# Altium footprint library D 电源模块.PcbLib: 107 footprints (part 1 of 7)
Each footprint in its own frame and in the unit in brackets; x right, y up, seen from the top. Pads: shape width x height; smd on the part's side, far side on the other; paste and mask are expansions set on the pad; w line width, h text height; cw(c..) or ccw(c..) is an arc to the next point about the centre after c.
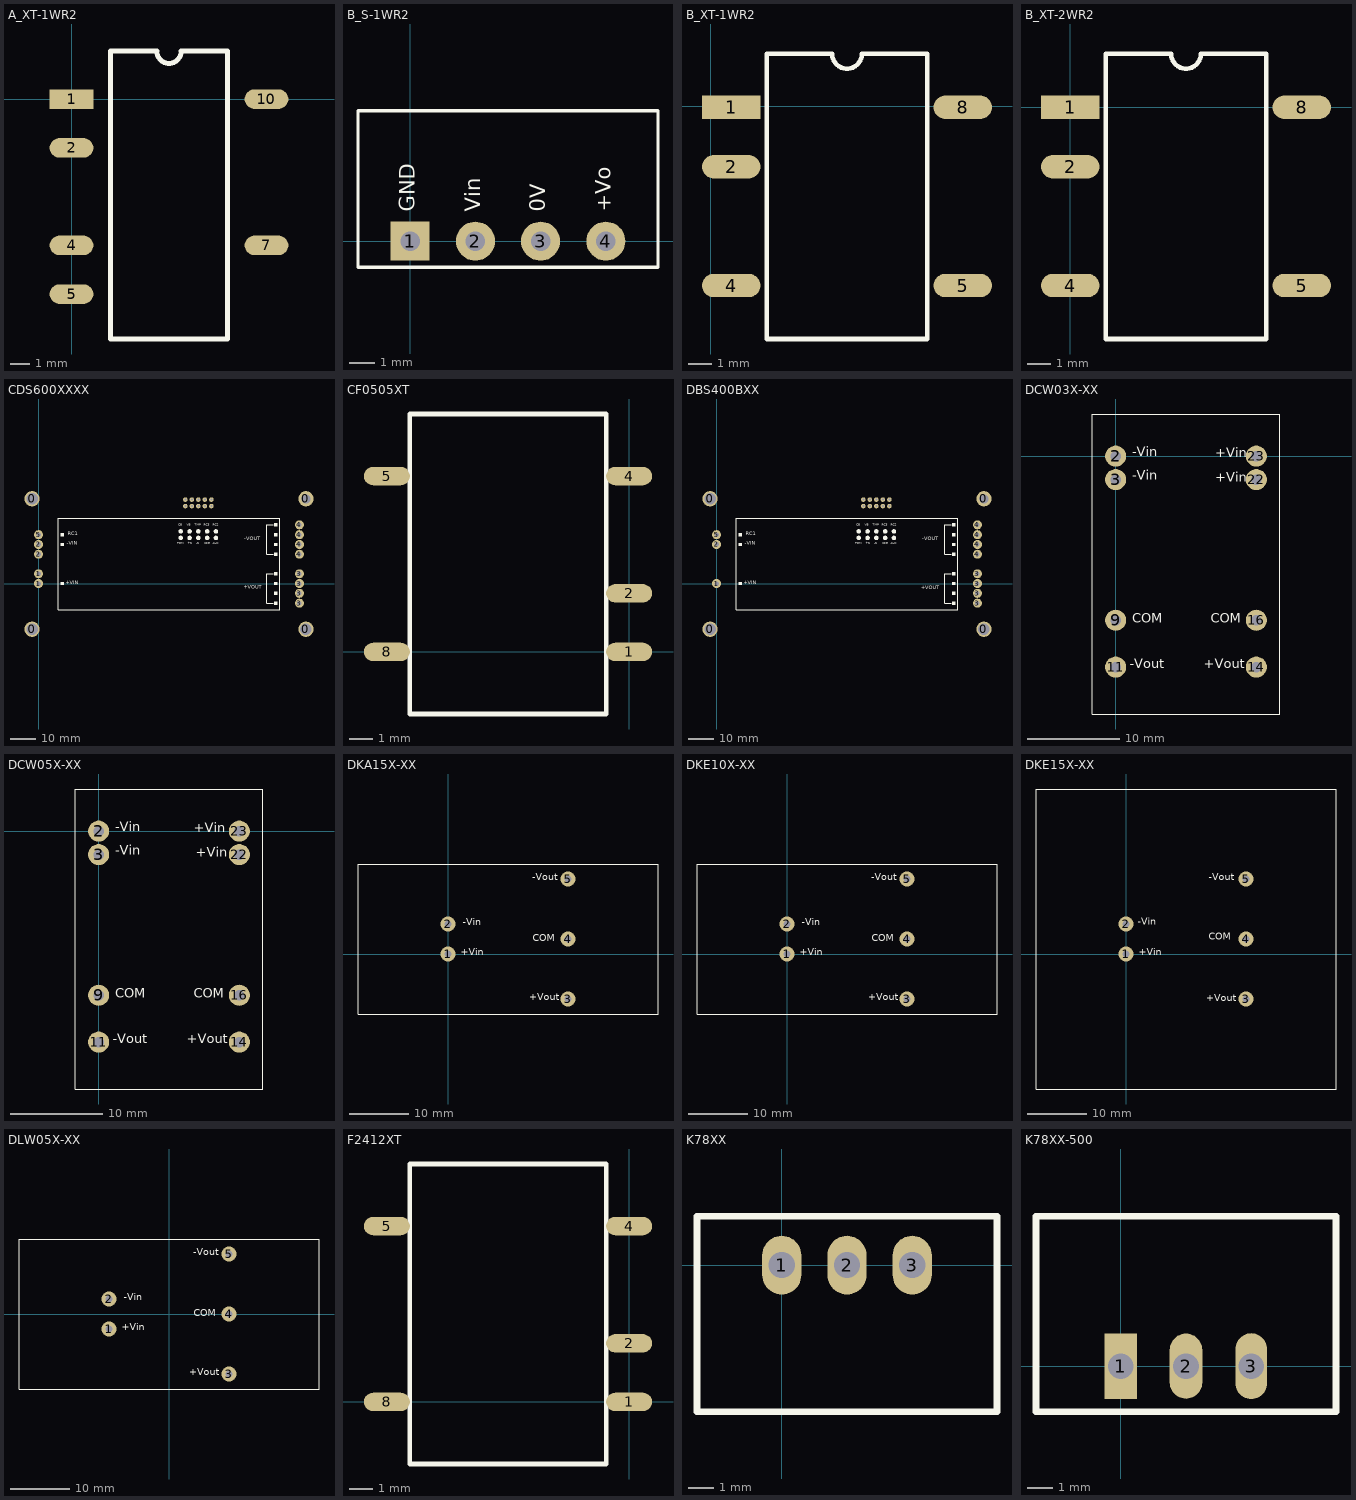
[diagram p0: the footprints below, top view; thin cyan lines are the x and y axes]

## A_XT-1WR2 [mil]
pads (6):
  rect 90x40 smd: 1(0,0)
  oval 90x40 smd: 2(0,-100) 4(0,-300) 5(0,-400) 7(400,-300) 10(400,0)
Top Overlay:
  lines w10: 80,-492.13 80,98.43 175,98.43 ccw(c200,98.43) 225,98.43 320,98.43 320,-492.13 80,-492.13

## B_S-1WR2 [mil] "金升阳DC-DC定电压输入/隔离非稳压/单路输出电源"
height 397.64
pads (4):
  rect 60x60 hole 30: 1(0,0)
  round 60 hole 30: 2(100,0) 3(200,0) 4(300,0)
Top Overlay:
  lines w5: -80,-40 380,-40 380,200 -80,200 -80,-40
  text "+Vo" at 315,45 h40
  text "0V" at 215,45 h40
  text "Vin" at 115,45 h40
  text "GND" at 15,45 h40
Bottom Overlay:
  text "+Vo" at 315,110 h40
  text "0V" at 215,85 h40
  text "Vin" at 115,95 h40
  text "GND" at 15,120 h40

## B_XT-1WR2 [mm]
pads (5):
  rect 2.5x1 smd: 1(0.875,-0.042)
  oval 2.5x1 smd: 2(0.875,-2.582) 4(0.875,-7.662) 5(10.781,-7.662) 8(10.781,-0.042)
Top Overlay:
  lines w0.2: 2.399,-9.948 2.399,2.244 5.193,2.244 ccw(c5.828,2.244) 6.463,2.244 9.257,2.244 9.257,-9.948 2.399,-9.948

## B_XT-2WR2 [mm]
pads (5):
  rect 2.5x1 smd: 1(0,0)
  oval 2.5x1 smd: 2(0,-2.54) 4(0,-7.62) 5(9.906,-7.62) 8(9.906,0)
Top Overlay:
  lines w0.2: 1.524,-9.906 8.382,-9.906 8.382,2.286 5.588,2.286 cw(c4.953,2.286) 4.318,2.286 1.524,2.286 1.524,-9.906

## CDS600XXXX [mil] "COSEL 600W DC-DC电源"
height 500
pads (37):
  round 236.22 hole 177.17: 0(-100,-700) 0(-100,1300) 0(4100,-700)
  round 70 on Top Overlay: 0(2180,700) 0(2180,800) 0(2315,700) 0(2315,800) 0(2450,700) 0(2450,800) 0(2585,700) 0(2585,800) 0(2720,700) 0(2720,800)
  round 236.22 hole 137.8: 0(4100,1300)
  round 137.79 hole 70.87: 1(0,0) 1(0,150) 2(0,450) 2(0,600) 3(4000,-300) 3(4000,-150) 3(4000,0) 4(4000,600) 4(4000,750) 4(4000,900) 5(0,750)
  round 137.8 hole 70.87: 3(4000,150) 4(4000,450)
  round 70 hole 31: 6(2250,1288) 7(2350,1288) 8(2450,1288) 9(2550,1288) 10(2650,1288) 11(2250,1188) 12(2350,1188) 13(2450,1188) 14(2550,1188) 15(2650,1188)
Top Overlay:
  rectangle: 340,725 390,775
  rectangle: 340,575 390,625
  rectangle: 340,-25 390,25
  region: 3660,775 3610,775 3610,725 3660,725
  region: 3660,625 3610,625 3610,575 3660,575
  region: 3660,25 3610,25 3610,-25 3660,-25
  region: 3660,175 3610,175 3610,125 3660,125
  region: 3660,-125 3610,-125 3610,-175 3660,-175
  region: 3660,-275 3610,-275 3610,-325 3660,-325
  region: 3660,475 3610,475 3610,425 3660,425
  region: 3660,925 3610,925 3610,875 3660,875
  lines w5: 3595,-300 3500,-300 3500,150 3595,150 ; 3595,450 3500,450 3500,900 3595,900
  lines w10: 300,-400 3700,-400 3700,1000 300,1000 300,-400
  text "+VIN" at 415,-30 h100
  text "-VIN" at 430,570 h100
  text "RC1" at 445,720 h100
  text "+VOUT" at 3145,-105 h100
  text "-VOUT" at 3155,645 h100
  text "CB" at 2145,875 h60
  text "VB" at 2275,875 h60
  text "TMP" at 2395,875 h60
  text "RC3" at 2535,875 h60
  text "RC2" at 2670,875 h60
  text "TRM" at 2125,585 h60
  text "+S" at 2285,585 h60
  text "-S" at 2420,585 h60
  text "IOG" at 2540,585 h60
  text "AUX" at 2670,585 h60
Bottom Overlay:
  lines w10: -300,-900 4300,-900 4300,1500 -300,1500 -300,-900

## CF0505XT [mm]
pads (5):
  oval 2x0.8 smd: 1(0,0) 2(0,2.54) 4(0,7.62) 5(-10.5,7.62) 8(-10.5,0)
Top Overlay:
  lines w0.2: -9.5,-2.69 -9.5,10.31 -1,10.31 -1,-2.69 -9.5,-2.69

## DBS400BXX [mil] "COSEL 400W DC-DC电源"
height 500
pads (35):
  round 236.22 hole 177.17: 0(-100,-700) 0(-100,1300) 0(4100,-700)
  round 70 on Top Overlay: 0(2180,700) 0(2180,800) 0(2315,700) 0(2315,800) 0(2450,700) 0(2450,800) 0(2585,700) 0(2585,800) 0(2720,700) 0(2720,800)
  round 236.22 hole 137.8: 0(4100,1300)
  round 137.79 hole 70.87: 1(0,0) 2(0,600) 3(4000,-300) 3(4000,-150) 3(4000,0) 4(4000,600) 4(4000,750) 4(4000,900) 5(0,750)
  round 137.8 hole 70.87: 3(4000,150) 4(4000,450)
  round 70 hole 31: 6(2250,1288) 7(2350,1288) 8(2450,1288) 9(2550,1288) 10(2650,1288) 11(2250,1188) 12(2350,1188) 13(2450,1188) 14(2550,1188) 15(2650,1188)
Top Overlay:
  region: 3660,925 3610,925 3610,875 3660,875
  region: 3660,475 3610,475 3610,425 3660,425
  region: 3660,-275 3610,-275 3610,-325 3660,-325
  region: 3660,-125 3610,-125 3610,-175 3660,-175
  region: 3660,175 3610,175 3610,125 3660,125
  region: 3660,25 3610,25 3610,-25 3660,-25
  region: 3660,625 3610,625 3610,575 3660,575
  region: 3660,775 3610,775 3610,725 3660,725
  rectangle: 340,-25 390,25
  rectangle: 340,575 390,625
  rectangle: 340,725 390,775
  lines w5: 3595,-300 3500,-300 3500,150 3595,150 ; 3595,450 3500,450 3500,900 3595,900
  lines w10: 300,-400 300,1000 3700,1000 3700,-400 300,-400
  text "AUX" at 2670,585 h60
  text "IOG" at 2540,585 h60
  text "-S" at 2420,585 h60
  text "+S" at 2285,585 h60
  text "TRM" at 2125,585 h60
  text "RC2" at 2670,875 h60
  text "RC3" at 2535,875 h60
  text "TMP" at 2395,875 h60
  text "VB" at 2275,875 h60
  text "CB" at 2145,875 h60
  text "-VOUT" at 3155,645 h100
  text "+VOUT" at 3135,-110 h100
  text "RC1" at 445,720 h100
  text "-VIN" at 430,570 h100
  text "+VIN" at 415,-30 h100
Bottom Overlay:
  lines w10: -300,-900 -300,1500 4300,1500 4300,-900 -300,-900

## DCW03X-XX [mil] "明纬DC-DC 3W 2：1宽输入/隔离稳压/双组输出电源"
height 480.31
pads (8):
  round 90 hole 45: 2(0,0) 3(0,-100) 9(0,-700) 11(0,-900) 14(600,-900) 16(600,-700) 22(600,-100) 23(600,0)
Top Overlay:
  lines w5: -100,-1100 -100,180 700,180 700,-1100 -100,-1100
  text "-Vout" at 60,-920 h70
  text "+Vout" at 375,-920 h70
  text "COM" at 405,-725 h70
  text "COM" at 70,-725 h70
  text "+Vin" at 425,-125 h70
  text "+Vin" at 425,-20 h70
  text "-Vin" at 70,-15 h70
  text "-Vin" at 70,-115 h70
Bottom Overlay:
  text "-Vout" at 205,-920 h70
  text "+Vout" at 540,-920 h70
  text "COM" at 545,-725 h70
  text "COM" at 210,-725 h70
  text "+Vin" at 545,-125 h70
  text "+Vin" at 545,-25 h70
  text "-Vin" at 175,-15 h70
  text "-Vin" at 170,-115 h70

## DCW05X-XX [mil] "明纬DC-DC 5W 2：1宽输入/隔离稳压/双组输出电源"
height 480.31
pads (8):
  round 90 hole 45: 2(0,0) 3(0,-100) 9(0,-700) 11(0,-900) 14(600,-900) 16(600,-700) 22(600,-100) 23(600,0)
Top Overlay:
  lines w5: -100,-1100 700,-1100 700,180 -100,180 -100,-1100
  text "-Vin" at 70,-115 h70
  text "-Vin" at 70,-15 h70
  text "+Vin" at 405,-20 h70
  text "+Vin" at 415,-125 h70
  text "COM" at 70,-725 h70
  text "COM" at 405,-725 h70
  text "+Vout" at 375,-920 h70
  text "-Vout" at 60,-920 h70
Bottom Overlay:
  text "-Vin" at 170,-115 h70
  text "-Vin" at 175,-15 h70
  text "+Vin" at 535,-25 h70
  text "+Vin" at 535,-125 h70
  text "COM" at 210,-725 h70
  text "COM" at 545,-725 h70
  text "+Vout" at 540,-920 h70
  text "-Vout" at 215,-920 h70

## DKA15X-XX [mil] "明纬DC-DC 15W 2：1宽输入/隔离稳压/双组输出电源"
height 443.7
pads (5):
  round 100 hole 45: 1(0,0) 2(0,200) 3(800,-300) 4(800,100) 5(800,500)
Top Overlay:
  lines w5: -600,-400 1400,-400 1400,600 -600,600 -600,-400
  text "COM" at 565,70 h80
  text "-Vin" at 99.91,175 h80
  text "+Vin" at 85,-25 h80
  text "+Vout" at 540,-325 h80
  text "-Vout" at 560,475 h80
Bottom Overlay:
  text "COM" at 725,70 h80
  text "-Vout" at 730,475 h80
  text "+Vin" at 220,-25 h80
  text "-Vin" at 220,175 h80
  text "+Vout" at 720,-330 h80

## DKE10X-XX [mil] "明纬DC-DC 10W 2：1宽输入/隔离稳压/双组输出电源"
height 443.7
pads (5):
  round 100 hole 45: 1(0,0) 2(0,200) 3(800,-300) 4(800,100) 5(800,500)
Top Overlay:
  lines w5: -600,-400 1400,-400 1400,600 -600,600 -600,-400
  text "COM" at 565,70 h80
  text "-Vin" at 99.91,175 h80
  text "+Vin" at 85,-25 h80
  text "+Vout" at 540,-325 h80
  text "-Vout" at 560,475 h80
Bottom Overlay:
  text "COM" at 725,70 h80
  text "-Vout" at 730,475 h80
  text "+Vin" at 220,-25 h80
  text "-Vin" at 220,175 h80
  text "+Vout" at 720,-330 h80

## DKE15X-XX [mil] "明纬DC-DC 15W 2：1宽输入/隔离稳压/双组输出电源"
height 433.07
pads (5):
  round 100 hole 45: 1(0,0) 2(0,200) 3(800,-300) 4(800,100) 5(800,500)
Top Overlay:
  lines w5: -600,-900 1400,-900 1400,1100 -600,1100 -600,-900
  text "-Vout" at 550,475 h80
  text "+Vout" at 535,-330 h80
  text "+Vin" at 85,-25 h80
  text "-Vin" at 79.91,180 h80
  text "COM" at 550,80 h80
Bottom Overlay:
  text "COM" at 710,80 h80
  text "+Vout" at 720,-335 h80
  text "-Vin" at 200,180 h80
  text "+Vin" at 220,-25 h80
  text "-Vout" at 720,475 h80

## DLW05X-XX [mil] "明纬DC-DC 5W 2：1宽输入/隔离稳压/双组输出电源"
height 443.7
pads (5):
  round 100 hole 45: 1(-400,-100) 2(-400,100) 3(400,-400) 4(400,0) 5(400,400)
Top Overlay:
  lines w5: -1000,-500 -1000,500 1000,500 1000,-500 -1000,-500
  text "-Vout" at 160,375 h80
  text "+Vout" at 135,-425 h80
  text "+Vin" at -315,-125 h80
  text "-Vin" at -300.09,75 h80
  text "COM" at 165,-30 h80
Bottom Overlay:
  text "+Vout" at 320,-430 h80
  text "-Vin" at -180,75 h80
  text "+Vin" at -180,-125 h80
  text "-Vout" at 330,375 h80
  text "COM" at 325,-30 h80

## F2412XT [mm]
pads (5):
  oval 2x0.8 smd: 1(0,0) 2(0,2.54) 4(0,7.62) 5(-10.5,7.62) 8(-10.5,0)
Top Overlay:
  lines w0.2: -9.5,-2.69 -1,-2.69 -1,10.31 -9.5,10.31 -9.5,-2.69

## K78XX [mil]
pads (3):
  oval 60x90 hole 40: 1(0,0) 2(100,0) 3(200,0)
Top Overlay:
  lines w10: -130,-225 -130,75 330,75 330,-225 -130,-225

## K78XX-500 [mm]
pads (3):
  rect 1.27x2.54 hole 1: 1(0,0)
  oval 1.27x2.54 hole 1: 2(2.54,0)
  oval 1.24x2.57 hole 1: 3(5.08,0)
Top Overlay:
  lines w0.254: -3.302,-1.778 -3.302,5.842 8.382,5.842 8.382,-1.778 -3.302,-1.778